# Altium integrated library Integrated_Library1.IntLib: 20 symbols
Pins are listed as number, name and electrical type; pins without a type are passive.

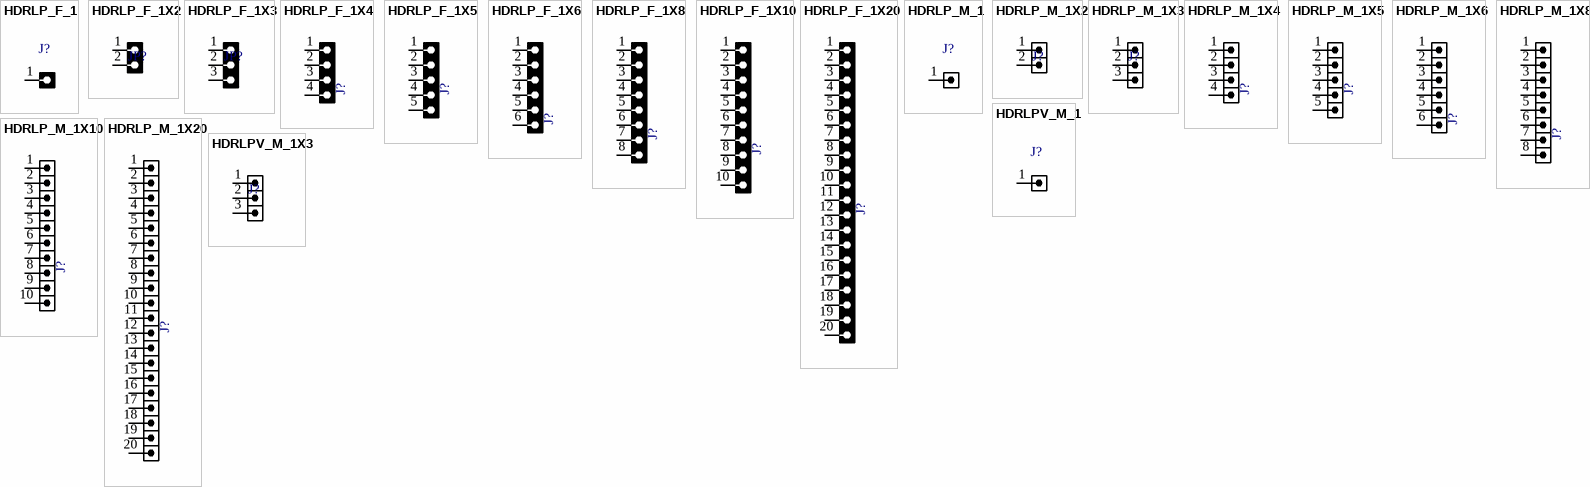
[diagram p0: symbols HDRLP_F_1 to HDRLPV_M_1X3]

## HDRLP_F_1
designator J?, comment HDRF1  (value not drawn)
CONN, HEADER, Female, pitch: 2.54mm, 1POS; VALUE: HDRF1
footprint HDRLP_F_1 (Footprint not found)
pins: 1

## HDRLP_F_1X2
designator JP?, comment HDRF2  (value not drawn)
CONN, HEADER, Male, pitch: 2.54mm, 2POS; VALUE: HDRF2
footprint HDRLP_F_1X2 (Footprint not found)
pins: 1, 2

## HDRLP_F_1X3
designator JP?, comment HDRF3  (value not drawn)
CONN, HEADER, Male, pitch: 2.54mm, 3POS; VALUE: HDRF3
footprint HDRLP_F_1X3 (Footprint not found)
pins: 1, 2, 3

## HDRLP_F_1X4
designator J?, comment HDRF4  (value not drawn)
CONN, HEADER, Male, pitch: 2.54mm, 4POS; VALUE: HDRF4
footprint HDRLP_F_1X4 (Footprint not found)
pins: 1, 2, 3, 4

## HDRLP_F_1X5
designator J?, comment HDRF5  (value not drawn)
CONN, HEADER, Male, pitch: 2.54mm, 5POS; VALUE: HDRF5
footprint HDRLP_F_1X5 (Footprint not found)
pins: 1, 2, 3, 4, 5

## HDRLP_F_1X6
designator J?, comment HDRF6  (value not drawn)
CONN, HEADER, Male, pitch: 2.54mm, 6POS; VALUE: HDRF6
footprint HDRLP_F_1X6 (Footprint not found)
pins: 1, 2, 3, 4, 5, 6

## HDRLP_F_1X8
designator J?, comment HDRF8  (value not drawn)
CONN, HEADER, Male, pitch: 2.54mm, 8POS; VALUE: HDRF8
footprint HDRLP_F_1X8 (Footprint not found)
pins: 1, 2, 3, 4, 5, 6, 7, 8

## HDRLP_F_1X10
designator J?, comment HDRF10  (value not drawn)
CONN, HEADER, Male, pitch: 2.54mm, 10POS; VALUE: HDRF10
footprint HDRLP_F_1X10 (Footprint not found)
pins: 1, 2, 3, 4, 5, 6, 7, 8, 9, 10

## HDRLP_F_1X20
designator J?, comment HDRF20  (value not drawn)
CONN, HEADER, Male, pitch: 2.54mm, 20POS; VALUE: HDRF20
footprint HDRLP_F_1X20 (Footprint not found)
pins: 1, 2, 3, 4, 5, 6, 7, 8, 9, 10, 11, 12, 13, 14, 15, 16, 17, 18, 19, 20

## HDRLP_M_1
designator J?, comment HDRM1  (value not drawn)
CONN, HEADER, LowProfile, Male, pitch: 2.54mm, 1POS; VALUE: HDRM1
footprint HDRLP_M_1 (Connector Header, Single-row 1-position, 0.100" pitch)
pins: 1

## HDRLP_M_1X2
designator J?, comment HDRM2  (value not drawn)
CONN, HEADER, Male, pitch: 2.54mm, 2POS; VALUE: HDRM2
footprint HDRLP_M_1X2 (Footprint not found)
pins: 1, 2

## HDRLP_M_1X3
designator J?, comment HDRM3  (value not drawn)
CONN, HEADER, Male, pitch: 2.54mm, 3POS; VALUE: HDRM3
footprint HDRLP_M_1X3 (Connector Header, Single-row 3-position, 0.100" pitch)
pins: 1, 2, 3

## HDRLP_M_1X4
designator J?, comment HDR1X4  (value not drawn)
CONN, HEADER, Male, pitch: 2.54mm, 4POS; VALUE: HDRM4
footprint HDRLP_M_1X4 (Footprint not found)
pins: 1, 2, 3, 4

## HDRLP_M_1X5
designator J?, comment HDR1X5  (value not drawn)
CONN, HEADER, Male, pitch: 2.54mm, 5POS; VALUE: HDRM5
footprint HDRLP_M_1X5 (Footprint not found)
pins: 1, 2, 3, 4, 5

## HDRLP_M_1X6
designator J?, comment HDR1X6  (value not drawn)
CONN, HEADER, Male, pitch: 2.54mm, 6POS; VALUE: HDRM6
footprint HDRLP_M_1X6 (Footprint not found)
pins: 1, 2, 3, 4, 5, 6

## HDRLP_M_1X8
designator J?, comment HDRM8  (value not drawn)
CONN, HEADER, Male, pitch: 2.54mm, 8POS; VALUE: HDRM8
footprint HDRLP_M_1X8 (Footprint not found)
pins: 1, 2, 3, 4, 5, 6, 7, 8

## HDRLP_M_1X10
designator J?, comment HDR1X10  (value not drawn)
CONN, HEADER, Male, pitch: 2.54mm, 10POS; VALUE: HDRM10
footprint HDRLP_M_1X10 (Footprint not found)
pins: 1, 2, 3, 4, 5, 6, 7, 8, 9, 10

## HDRLP_M_1X20
designator J?, comment HDR1X20  (value not drawn)
CONN, HEADER, Male, pitch: 2.54mm, 20POS; VALUE: HDRM20
footprint HDRLP_M_1X20 (Footprint not found)
pins: 1, 2, 3, 4, 5, 6, 7, 8, 9, 10, 11, 12, 13, 14, 15, 16, 17, 18, 19, 20

## HDRLPV_M_1
designator J?, comment HDRM1  (value not drawn)
CONN, HEADER, VeryLowProfile, Male, pitch: 2.54mm, 1POS; VALUE: HDRM1
footprint HDRLPV_M_1 (Connector Socket with header, Single-row 1-position, 0.100" pitch)
pins: 1

## HDRLPV_M_1X3
designator J?, comment HDRM3  (value not drawn)
CONN, HEADER, VeryLowProfile, Male, pitch: 2.54mm, 3POS; VALUE: HDRM3
signal-integrity model Connector
footprint HDRLPV_M_1X3 (Connector Socket with header, Single-row 3-position, 0.100" pitch)
pins: 1, 2, 3